# EAGLE library part CAN_TRANSCEIVER (library Virulent_HW)
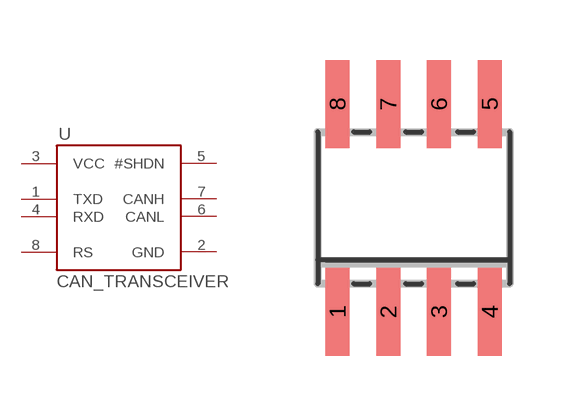
[diagram p3: symbol with the pads of SO8; footprint SO8]

Designator prefix -

## CAN_TRANSCEIVERMAX3057  [SO8]
1  TXD
2  GND
3  VCC
4  RXD
5  #SHDN
6  CANL
7  CANH
8  RS

## Footprint SO8 (pad centres in mm)
smd 0.6 x 2.2: 1 -1.905,-2.6; 2 -0.635,-2.6; 3 0.635,-2.6; 4 1.905,-2.6; 5 1.905,2.6; 6 0.635,2.6; 7 -0.635,2.6; 8 -1.905,2.6